# EAGLE library part AVR_ISP (library n39)
AVR ISP Pinheader Belegung: 1: MISO 2: VCC 3: SCK 4: MOSI 5: Reset 6: GND
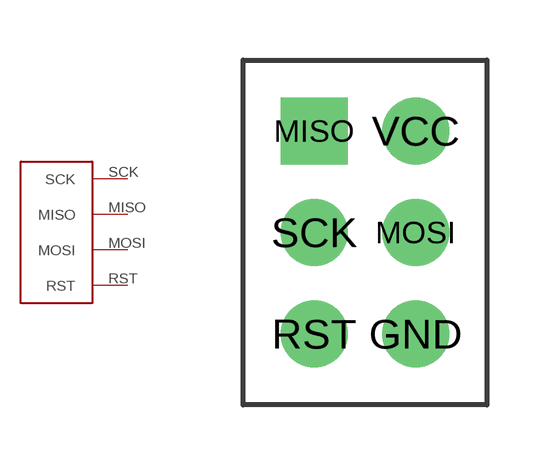
[diagram p5: symbol with the pads of AVR_ISP; footprint AVR_ISP]

Designator prefix -

## AVR_ISP  [AVR_ISP]
GND  GND  pwr
MISO  MISO
MOSI  MOSI
RST  RST
SCK  SCK
VCC  VCC  pwr

## Footprint AVR_ISP (pad centres in mm)
drill 0.9 pad 1.676: GND 1.27,-2.54; MOSI 1.27,0; RST -1.27,-2.54; SCK -1.27,0; VCC 1.27,2.54
drill 0.9 pad 1.676 square: MISO -1.27,2.54